# EAGLE library part MCP23016 (library Bauteile)
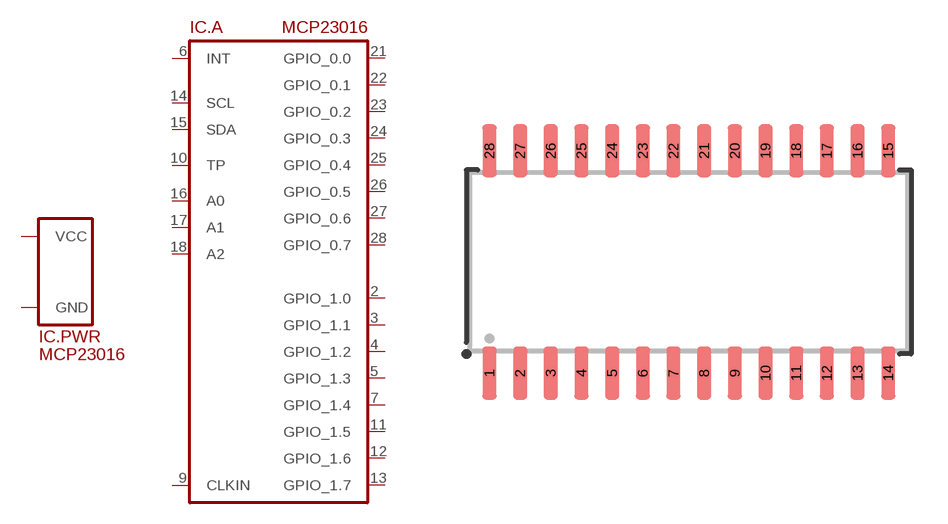
[diagram p147: symbol with the pads of SO28; footprint SO28]

Designator prefix IC; gates .PWR=SUPPLY_VCC/GND .A=MCP23016

## MCP23016  [SO28]
1  .PWR:GND
2  .A:GPIO_1.0
3  .A:GPIO_1.1
4  .A:GPIO_1.2
5  .A:GPIO_1.3
6  .A:INT
7  .A:GPIO_1.4
8  .PWR:GND
9  .A:CLKIN
10  .A:TP
11  .A:GPIO_1.5
12  .A:GPIO_1.6
13  .A:GPIO_1.7
14  .A:SCL
15  .A:SDA
16  .A:A0
17  .A:A1
18  .A:A2
19  .PWR:GND
20  .PWR:VCC
21  .A:GPIO_0.0
22  .A:GPIO_0.1
23  .A:GPIO_0.2
24  .A:GPIO_0.3
25  .A:GPIO_0.4
26  .A:GPIO_0.5
27  .A:GPIO_0.6
28  .A:GPIO_0.7

## Footprint SO28 (pad centres in mm)
smd 0.6 x 2.2: 1 -8.255,-4.6; 2 -6.985,-4.6; 3 -5.715,-4.6; 4 -4.445,-4.6; 5 -3.175,-4.6; 6 -1.905,-4.6; 7 -0.635,-4.6; 8 0.635,-4.6; 9 1.905,-4.6; 10 3.175,-4.6; 11 4.445,-4.6; 12 5.715,-4.6; 13 6.985,-4.6; 14 8.255,-4.6; 15 8.255,4.6; 16 6.985,4.6; 17 5.715,4.6; 18 4.445,4.6; 19 3.175,4.6; 20 1.905,4.6; 21 0.635,4.6; 22 -0.635,4.6; 23 -1.905,4.6; 24 -3.175,4.6; 25 -4.445,4.6; 26 -5.715,4.6; 27 -6.985,4.6; 28 -8.255,4.6